# Altium schematic symbol library kmilo17pet-LT_ChargePump.SchLib: 599 symbols (part 20 of 29)
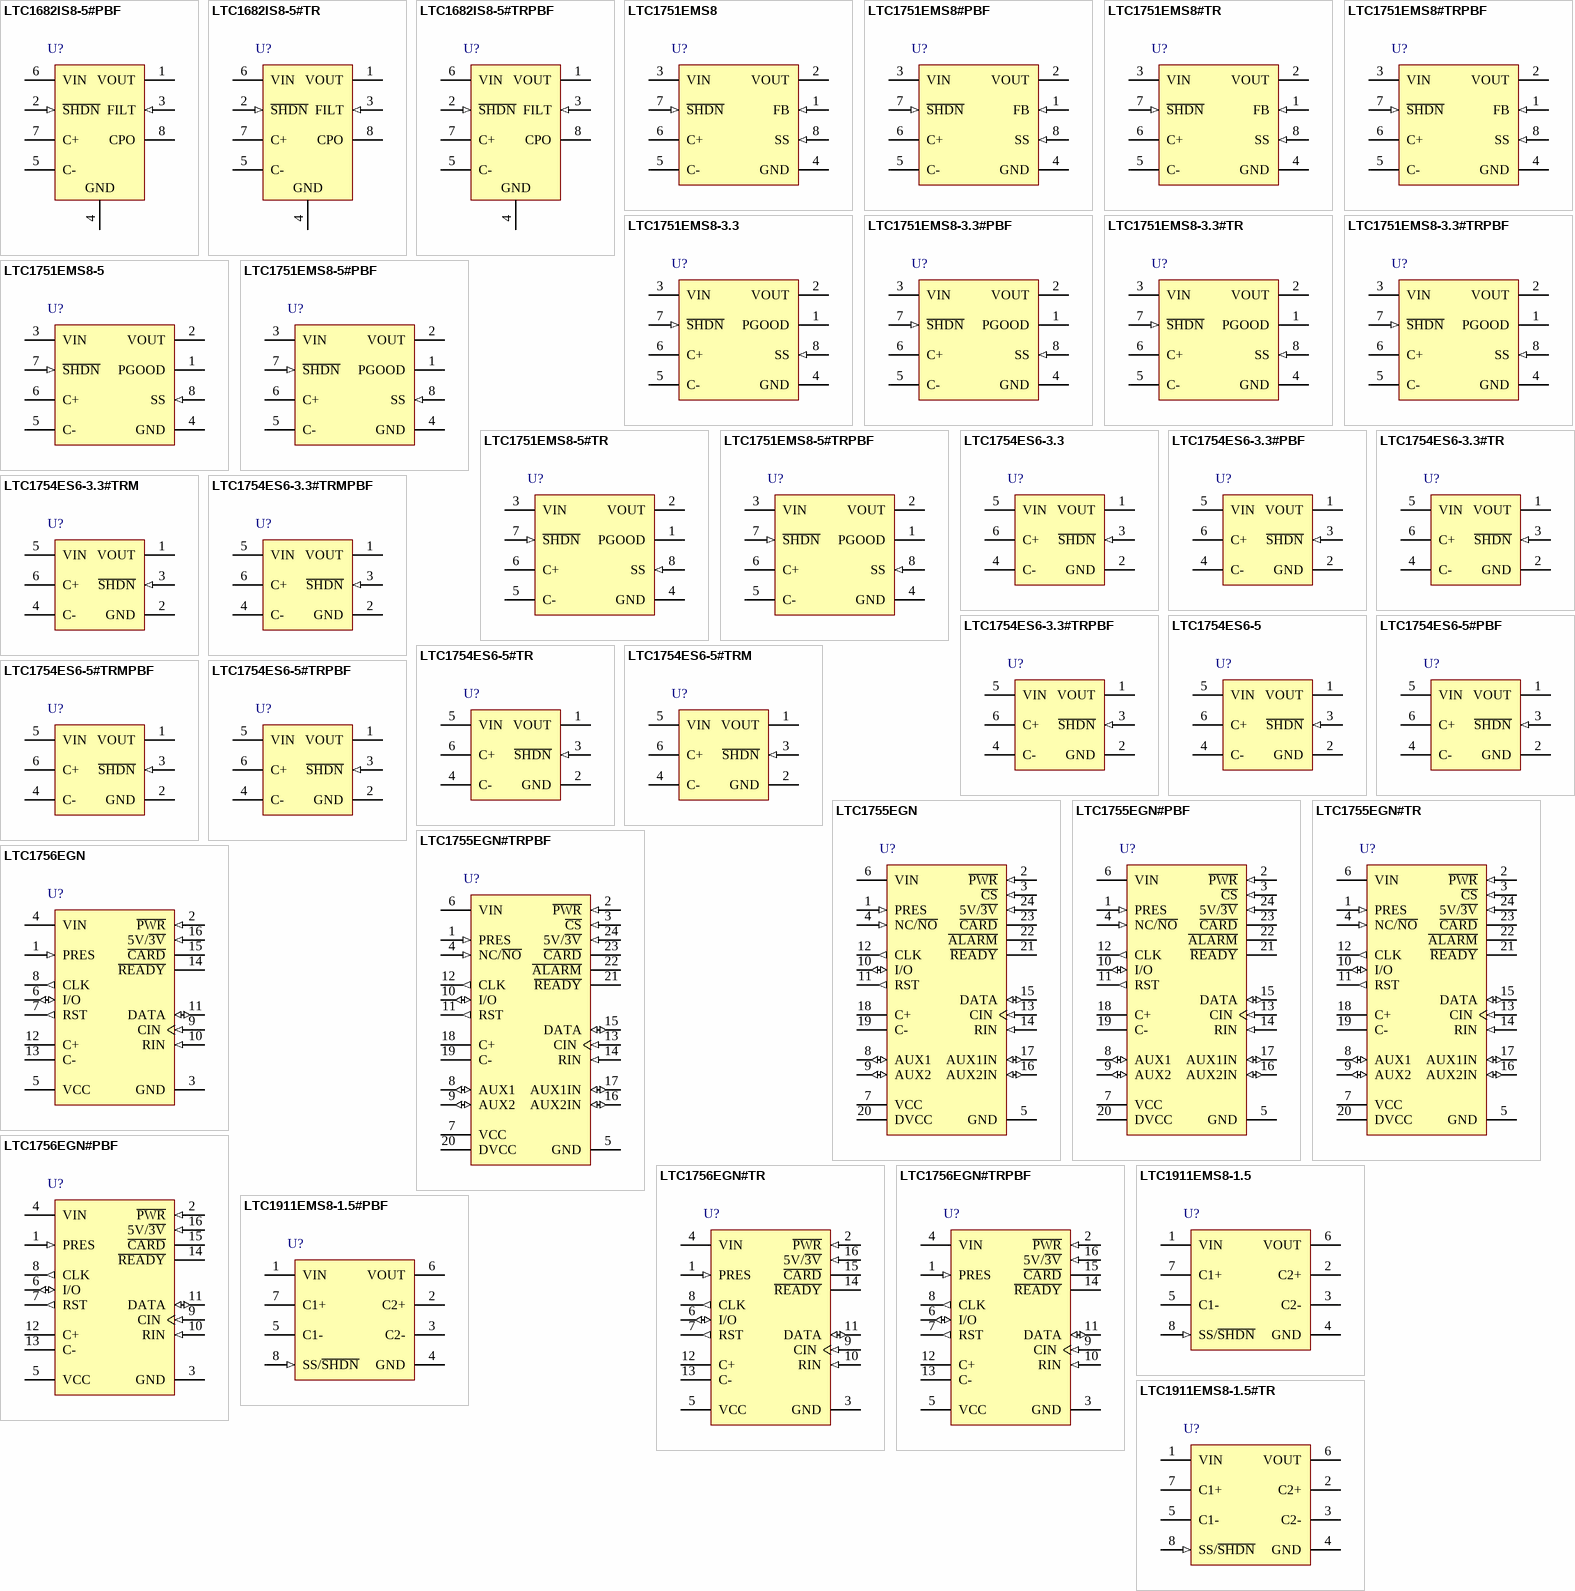
[diagram p35: symbols LTC1682IS8-5#PBF to LTC1911EMS8-1.5#TR]

## LTC1751EMS8-3.3#TRPBF
designator U?
Micropower, Regulated Charge Pump DC/DC Converter, 2 to 4.4 V Vin, 3.3 V Vout, 8-pin SOP (MS8-8), -40 to 85 degC, Pb-Free, Tape and Reel; Manufacturer: Linear Technology; PartNumber: LTC1751EMS8-3.3#TRPBF; Isupply(mA): 0.018; Max Iout(mA): 80; Vin Max(V): 4.4; Vin Min(V): 2; Voutput: 3.3V; PackageVersion: Rev. G, 03/2012; PackageReference: MS8-8; PackageDescription: 8-Pin Plastic MSOP, Body 3 x 3 mm, Pitch 0.65 mm; Supplier 1: Digi-Key; Supplier Part Number 1: LTC1751EMS8-3.3#TRPBF-ND; Packing: Tape and Reel; RoHS: TRUE; Mounting Technology: Surface Mount; ComponentLink1Description: Manufacturer URL; ComponentLink1URL: http://www.linear.com/; ComponentLink2Description: Datasheet; ComponentLink2URL: http://cds.linear.com/docs/en/datasheet/1751f.pdf; ComponentLink3Description: Package Specification; ComponentLink3URL: http://cds.linear.com/docs/en/packaging/05081660_G_MS8.pdf
footprint LT-MS8-8_N (SOP, 8-Leads, Body 3.1x3.1mm, Pitch 0.65mm, IPC Medium Density)
footprint LT-MS8-8_L (SOP, 8-Leads, Body 3.1x3.1mm, Pitch 0.65mm, IPC High Density)
footprint LT-MS8-8_M (SOP, 8-Leads, Body 3.1x3.1mm, Pitch 0.65mm, IPC Low Density)
pins: 1 PGOOD (hiz) "Output Voltage Status Indicator. On start-up, this open-drain pin remains low until the output voltage, VOUT, is within 4.5% (typ) of its final value. Once VOUT is valid, PGOOD becomes high-Z. If, due to a fault condition, (See Datasheet)", 2 VOUT (power) "Regulated Output Voltage. For best performance, VOUT should be bypassed with a 6.8uF (min) low ESR capacitor as close to the pin as possible .", 3 VIN (power) "Input Supply Voltage. VIN should be bypassed with a 6.8uF (min) low ESR capacitor.", 4 GND (power) "Ground. Should be tied to a ground plane for best performance.", 5 C- "Flying Capacitor Negative Terminal.", 6 C+ "Flying Capacitor Positive Terminal.", 7 ~{SHDN} (in) "Active Low Shutdown Input. A low on S\H\D\N\ disables the device. S\H\D\N\ must not be allowed to float.", 8 SS (in) "Soft-Start Programming Pin. A capacitor on SS programs the start-up time of the charge pump so that large start-up input current is eliminated."

## LTC1751EMS8-5
designator U?
Micropower, Regulated Charge Pump DC/DC Converter, 2.7 to 5.5 V Vin, 5 V Vout, 8-pin SOP (MS8-8), -40 to 85 degC; Manufacturer: Linear Technology; PartNumber: LTC1751EMS8-5; Isupply(mA): 0.02; Max Iout(mA): 100; Vin Max(V): 5.5; Vin Min(V): 2.7; Voutput: 5V; PackageVersion: Rev. G, 03/2012; PackageReference: MS8-8; PackageDescription: 8-Pin Plastic MSOP, Body 3 x 3 mm, Pitch 0.65 mm; Supplier 1: Digi-Key; Supplier Part Number 1: LTC1751EMS8-5-ND; RoHS: FALSE; Mounting Technology: Surface Mount; ComponentLink1Description: Manufacturer URL; ComponentLink1URL: http://www.linear.com/; ComponentLink2Description: Datasheet; ComponentLink2URL: http://cds.linear.com/docs/en/datasheet/1751f.pdf; ComponentLink3Description: Package Specification; ComponentLink3URL: http://cds.linear.com/docs/en/packaging/05081660_G_MS8.pdf
footprint LT-MS8-8_N (SOP, 8-Leads, Body 3.1x3.1mm, Pitch 0.65mm, IPC Medium Density)
footprint LT-MS8-8_L (SOP, 8-Leads, Body 3.1x3.1mm, Pitch 0.65mm, IPC High Density)
footprint LT-MS8-8_M (SOP, 8-Leads, Body 3.1x3.1mm, Pitch 0.65mm, IPC Low Density)
pins: 1 PGOOD (hiz) "Output Voltage Status Indicator. On start-up, this open-drain pin remains low until the output voltage, VOUT, is within 4.5% (typ) of its final value. Once VOUT is valid, PGOOD becomes high-Z. If, due to a fault condition, (See Datasheet)", 2 VOUT (power) "Regulated Output Voltage. For best performance, VOUT should be bypassed with a 6.8uF (min) low ESR capacitor as close to the pin as possible .", 3 VIN (power) "Input Supply Voltage. VIN should be bypassed with a 6.8uF (min) low ESR capacitor.", 4 GND (power) "Ground. Should be tied to a ground plane for best performance.", 5 C- "Flying Capacitor Negative Terminal.", 6 C+ "Flying Capacitor Positive Terminal.", 7 ~{SHDN} (in) "Active Low Shutdown Input. A low on S\H\D\N\ disables the device. S\H\D\N\ must not be allowed to float.", 8 SS (in) "Soft-Start Programming Pin. A capacitor on SS programs the start-up time of the charge pump so that large start-up input current is eliminated."

## LTC1751EMS8-5#PBF
designator U?
Micropower, Regulated Charge Pump DC/DC Converter, 2.7 to 5.5 V Vin, 5 V Vout, 8-pin SOP (MS8-8), -40 to 85 degC, Pb-Free; Manufacturer: Linear Technology; PartNumber: LTC1751EMS8-5#PBF; Isupply(mA): 0.02; Max Iout(mA): 100; Vin Max(V): 5.5; Vin Min(V): 2.7; Voutput: 5V; PackageVersion: Rev. G, 03/2012; PackageReference: MS8-8; PackageDescription: 8-Pin Plastic MSOP, Body 3 x 3 mm, Pitch 0.65 mm; Supplier 1: Digi-Key; Supplier Part Number 1: LTC1751EMS8-5#PBF-ND; Supplier 2: Newark; Supplier Part Number 2: 56M3695; RoHS: TRUE; Mounting Technology: Surface Mount; ComponentLink1Description: Manufacturer URL; ComponentLink1URL: http://www.linear.com/; ComponentLink2Description: Datasheet; ComponentLink2URL: http://cds.linear.com/docs/en/datasheet/1751f.pdf; ComponentLink3Description: Package Specification; ComponentLink3URL: http://cds.linear.com/docs/en/packaging/05081660_G_MS8.pdf
footprint LT-MS8-8_N (SOP, 8-Leads, Body 3.1x3.1mm, Pitch 0.65mm, IPC Medium Density)
footprint LT-MS8-8_L (SOP, 8-Leads, Body 3.1x3.1mm, Pitch 0.65mm, IPC High Density)
footprint LT-MS8-8_M (SOP, 8-Leads, Body 3.1x3.1mm, Pitch 0.65mm, IPC Low Density)
pins: 1 PGOOD (hiz) "Output Voltage Status Indicator. On start-up, this open-drain pin remains low until the output voltage, VOUT, is within 4.5% (typ) of its final value. Once VOUT is valid, PGOOD becomes high-Z. If, due to a fault condition, (See Datasheet)", 2 VOUT (power) "Regulated Output Voltage. For best performance, VOUT should be bypassed with a 6.8uF (min) low ESR capacitor as close to the pin as possible .", 3 VIN (power) "Input Supply Voltage. VIN should be bypassed with a 6.8uF (min) low ESR capacitor.", 4 GND (power) "Ground. Should be tied to a ground plane for best performance.", 5 C- "Flying Capacitor Negative Terminal.", 6 C+ "Flying Capacitor Positive Terminal.", 7 ~{SHDN} (in) "Active Low Shutdown Input. A low on S\H\D\N\ disables the device. S\H\D\N\ must not be allowed to float.", 8 SS (in) "Soft-Start Programming Pin. A capacitor on SS programs the start-up time of the charge pump so that large start-up input current is eliminated."

## LTC1751EMS8-5#TR
designator U?
Micropower, Regulated Charge Pump DC/DC Converter, 2.7 to 5.5 V Vin, 5 V Vout, 8-pin SOP (MS8-8), -40 to 85 degC, Tape and Reel; Manufacturer: Linear Technology; PartNumber: LTC1751EMS8-5#TR; Isupply(mA): 0.02; Max Iout(mA): 100; Vin Max(V): 5.5; Vin Min(V): 2.7; Voutput: 5V; PackageVersion: Rev. G, 03/2012; PackageReference: MS8-8; PackageDescription: 8-Pin Plastic MSOP, Body 3 x 3 mm, Pitch 0.65 mm; Supplier 1: Digi-Key; Supplier Part Number 1: LTC1751EMS8-5#TR-ND; Packing: Tape and Reel; RoHS: FALSE; Mounting Technology: Surface Mount; ComponentLink1Description: Manufacturer URL; ComponentLink1URL: http://www.linear.com/; ComponentLink2Description: Datasheet; ComponentLink2URL: http://cds.linear.com/docs/en/datasheet/1751f.pdf; ComponentLink3Description: Package Specification; ComponentLink3URL: http://cds.linear.com/docs/en/packaging/05081660_G_MS8.pdf
footprint LT-MS8-8_N (SOP, 8-Leads, Body 3.1x3.1mm, Pitch 0.65mm, IPC Medium Density)
footprint LT-MS8-8_L (SOP, 8-Leads, Body 3.1x3.1mm, Pitch 0.65mm, IPC High Density)
footprint LT-MS8-8_M (SOP, 8-Leads, Body 3.1x3.1mm, Pitch 0.65mm, IPC Low Density)
pins: 1 PGOOD (hiz) "Output Voltage Status Indicator. On start-up, this open-drain pin remains low until the output voltage, VOUT, is within 4.5% (typ) of its final value. Once VOUT is valid, PGOOD becomes high-Z. If, due to a fault condition, (See Datasheet)", 2 VOUT (power) "Regulated Output Voltage. For best performance, VOUT should be bypassed with a 6.8uF (min) low ESR capacitor as close to the pin as possible .", 3 VIN (power) "Input Supply Voltage. VIN should be bypassed with a 6.8uF (min) low ESR capacitor.", 4 GND (power) "Ground. Should be tied to a ground plane for best performance.", 5 C- "Flying Capacitor Negative Terminal.", 6 C+ "Flying Capacitor Positive Terminal.", 7 ~{SHDN} (in) "Active Low Shutdown Input. A low on S\H\D\N\ disables the device. S\H\D\N\ must not be allowed to float.", 8 SS (in) "Soft-Start Programming Pin. A capacitor on SS programs the start-up time of the charge pump so that large start-up input current is eliminated."

## LTC1751EMS8-5#TRPBF
designator U?
Micropower, Regulated Charge Pump DC/DC Converter, 2.7 to 5.5 V Vin, 5 V Vout, 8-pin SOP (MS8-8), -40 to 85 degC, Pb-Free, Tape and Reel; Manufacturer: Linear Technology; PartNumber: LTC1751EMS8-5#TRPBF; Isupply(mA): 0.02; Max Iout(mA): 100; Vin Max(V): 5.5; Vin Min(V): 2.7; Voutput: 5V; PackageVersion: Rev. G, 03/2012; PackageReference: MS8-8; PackageDescription: 8-Pin Plastic MSOP, Body 3 x 3 mm, Pitch 0.65 mm; Supplier 1: Digi-Key; Supplier Part Number 1: LTC1751EMS8-5#TRPBF-ND; Packing: Tape and Reel; RoHS: TRUE; Mounting Technology: Surface Mount; ComponentLink1Description: Manufacturer URL; ComponentLink1URL: http://www.linear.com/; ComponentLink2Description: Datasheet; ComponentLink2URL: http://cds.linear.com/docs/en/datasheet/1751f.pdf; ComponentLink3Description: Package Specification; ComponentLink3URL: http://cds.linear.com/docs/en/packaging/05081660_G_MS8.pdf
footprint LT-MS8-8_N (SOP, 8-Leads, Body 3.1x3.1mm, Pitch 0.65mm, IPC Medium Density)
footprint LT-MS8-8_L (SOP, 8-Leads, Body 3.1x3.1mm, Pitch 0.65mm, IPC High Density)
footprint LT-MS8-8_M (SOP, 8-Leads, Body 3.1x3.1mm, Pitch 0.65mm, IPC Low Density)
pins: 1 PGOOD (hiz) "Output Voltage Status Indicator. On start-up, this open-drain pin remains low until the output voltage, VOUT, is within 4.5% (typ) of its final value. Once VOUT is valid, PGOOD becomes high-Z. If, due to a fault condition, (See Datasheet)", 2 VOUT (power) "Regulated Output Voltage. For best performance, VOUT should be bypassed with a 6.8uF (min) low ESR capacitor as close to the pin as possible .", 3 VIN (power) "Input Supply Voltage. VIN should be bypassed with a 6.8uF (min) low ESR capacitor.", 4 GND (power) "Ground. Should be tied to a ground plane for best performance.", 5 C- "Flying Capacitor Negative Terminal.", 6 C+ "Flying Capacitor Positive Terminal.", 7 ~{SHDN} (in) "Active Low Shutdown Input. A low on S\H\D\N\ disables the device. S\H\D\N\ must not be allowed to float.", 8 SS (in) "Soft-Start Programming Pin. A capacitor on SS programs the start-up time of the charge pump so that large start-up input current is eliminated."

## LTC1754ES6-3.3
designator U?
Micropower, Regulated Charge Pump with Shutdown, 2 to 4.4 V Vin, 3.3 V Vout, 6-pin SOT23 (S6-6), -40 to 85 degC; Manufacturer: Linear Technology; PartNumber: LTC1754ES6-3.3; Frequency(kHz): 600; Ishutdown(uA): 0.01; Isupply(mA): 0.011; Max Iout(mA): 40; Vin Max(V): 4.4; Vin Min(V): 2; Voutput: 3.3V; PackageVersion: Aug-07; PackageReference: S6-6; PackageDescription: 6-Pin Plastic SOT-23, Body 1.625 x 2.9 mm, Pitch 0.95 mm; RoHS: FALSE; Mounting Technology: Surface Mount; ComponentLink1Description: Manufacturer URL; ComponentLink1URL: http://www.linear.com/; ComponentLink2Description: Datasheet; ComponentLink2URL: http://cds.linear.com/docs/en/datasheet/175435f.pdf; ComponentLink3Description: Package Specification; ComponentLink3URL: http://cds.linear.com/docs/en/datasheet/175435f.pdf
footprint LT-S6-6-SOT-23_N (SOT23, 6-Leads, Body 3x1.75mm, Pitch 0.95mm, IPC Medium Density)
footprint LT-S6-6-SOT-23_L (SOT23, 6-Leads, Body 3x1.75mm, Pitch 0.95mm, IPC High Density)
footprint LT-S6-6-SOT-23_M (SOT23, 6-Leads, Body 3x1.75mm, Pitch 0.95mm, IPC Low Density)
pins: 1 VOUT (power), 2 GND (power) "Ground. Should be tied to a ground plane for best performance.", 3 ~{SHDN} (in), 4 C- "Flying Capacitor Negative Terminal", 5 VIN (power), 6 C+ "Flying Capacitor Positive Terminal."

## LTC1754ES6-3.3#PBF
designator U?
Micropower, Regulated Charge Pump with Shutdown, 2 to 4.4 V Vin, 3.3 V Vout, 6-pin SOT23 (S6-6), -40 to 85 degC, Pb-Free; Manufacturer: Linear Technology; PartNumber: LTC1754ES6-3.3#PBF; Frequency(kHz): 600; Ishutdown(uA): 0.01; Isupply(mA): 0.011; Max Iout(mA): 40; Vin Max(V): 4.4; Vin Min(V): 2; Voutput: 3.3V; PackageVersion: Aug-07; PackageReference: S6-6; PackageDescription: 6-Pin Plastic SOT-23, Body 1.625 x 2.9 mm, Pitch 0.95 mm; Supplier 1: Newark; Supplier Part Number 1: 78T2519; RoHS: TRUE; Mounting Technology: Surface Mount; ComponentLink1Description: Manufacturer URL; ComponentLink1URL: http://www.linear.com/; ComponentLink2Description: Datasheet; ComponentLink2URL: http://cds.linear.com/docs/en/datasheet/175435f.pdf; ComponentLink3Description: Package Specification; ComponentLink3URL: http://cds.linear.com/docs/en/datasheet/175435f.pdf
footprint LT-S6-6-SOT-23_N (SOT23, 6-Leads, Body 3x1.75mm, Pitch 0.95mm, IPC Medium Density)
footprint LT-S6-6-SOT-23_L (SOT23, 6-Leads, Body 3x1.75mm, Pitch 0.95mm, IPC High Density)
footprint LT-S6-6-SOT-23_M (SOT23, 6-Leads, Body 3x1.75mm, Pitch 0.95mm, IPC Low Density)
pins: 1 VOUT (power), 2 GND (power) "Ground. Should be tied to a ground plane for best performance.", 3 ~{SHDN} (in), 4 C- "Flying Capacitor Negative Terminal", 5 VIN (power), 6 C+ "Flying Capacitor Positive Terminal."

## LTC1754ES6-3.3#TR
designator U?
Micropower, Regulated Charge Pump with Shutdown, 2 to 4.4 V Vin, 3.3 V Vout, 6-pin SOT23 (S6-6), -40 to 85 degC, Tape and Reel; Manufacturer: Linear Technology; PartNumber: LTC1754ES6-3.3#TR; Frequency(kHz): 600; Ishutdown(uA): 0.01; Isupply(mA): 0.011; Max Iout(mA): 40; Vin Max(V): 4.4; Vin Min(V): 2; Voutput: 3.3V; PackageVersion: Aug-07; PackageReference: S6-6; PackageDescription: 6-Pin Plastic SOT-23, Body 1.625 x 2.9 mm, Pitch 0.95 mm; Supplier 1: Digi-Key; Supplier Part Number 1: LTC1754ES6-3.3#TR-ND; Packing: Tape and Reel; RoHS: FALSE; Mounting Technology: Surface Mount; ComponentLink1Description: Manufacturer URL; ComponentLink1URL: http://www.linear.com/; ComponentLink2Description: Datasheet; ComponentLink2URL: http://cds.linear.com/docs/en/datasheet/175435f.pdf; ComponentLink3Description: Package Specification; ComponentLink3URL: http://cds.linear.com/docs/en/datasheet/175435f.pdf
footprint LT-S6-6-SOT-23_N (SOT23, 6-Leads, Body 3x1.75mm, Pitch 0.95mm, IPC Medium Density)
footprint LT-S6-6-SOT-23_L (SOT23, 6-Leads, Body 3x1.75mm, Pitch 0.95mm, IPC High Density)
footprint LT-S6-6-SOT-23_M (SOT23, 6-Leads, Body 3x1.75mm, Pitch 0.95mm, IPC Low Density)
pins: 1 VOUT (power), 2 GND (power) "Ground. Should be tied to a ground plane for best performance.", 3 ~{SHDN} (in), 4 C- "Flying Capacitor Negative Terminal", 5 VIN (power), 6 C+ "Flying Capacitor Positive Terminal."

## LTC1754ES6-3.3#TRM
designator U?
Micropower, Regulated Charge Pump with Shutdown, 2 to 4.4 V Vin, 3.3 V Vout, 6-pin SOT23 (S6-6), -40 to 85 degC, Mini Tape and Reel; Manufacturer: Linear Technology; PartNumber: LTC1754ES6-3.3#TRM; Frequency(kHz): 600; Ishutdown(uA): 0.01; Isupply(mA): 0.011; Max Iout(mA): 40; Vin Max(V): 4.4; Vin Min(V): 2; Voutput: 3.3V; PackageVersion: Aug-07; PackageReference: S6-6; PackageDescription: 6-Pin Plastic SOT-23, Body 1.625 x 2.9 mm, Pitch 0.95 mm; Supplier 1: Digi-Key; Supplier Part Number 1: LTC1754ES6-3.3#TRM-ND; Packing: Mini Tape and Reel; RoHS: FALSE; Mounting Technology: Surface Mount; ComponentLink1Description: Manufacturer URL; ComponentLink1URL: http://www.linear.com/; ComponentLink2Description: Datasheet; ComponentLink2URL: http://cds.linear.com/docs/en/datasheet/175435f.pdf; ComponentLink3Description: Package Specification; ComponentLink3URL: http://cds.linear.com/docs/en/datasheet/175435f.pdf
footprint LT-S6-6-SOT-23_N (SOT23, 6-Leads, Body 3x1.75mm, Pitch 0.95mm, IPC Medium Density)
footprint LT-S6-6-SOT-23_L (SOT23, 6-Leads, Body 3x1.75mm, Pitch 0.95mm, IPC High Density)
footprint LT-S6-6-SOT-23_M (SOT23, 6-Leads, Body 3x1.75mm, Pitch 0.95mm, IPC Low Density)
pins: 1 VOUT (power), 2 GND (power) "Ground. Should be tied to a ground plane for best performance.", 3 ~{SHDN} (in), 4 C- "Flying Capacitor Negative Terminal", 5 VIN (power), 6 C+ "Flying Capacitor Positive Terminal."

## LTC1754ES6-3.3#TRMPBF
designator U?
Micropower, Regulated Charge Pump with Shutdown, 2 to 4.4 V Vin, 3.3 V Vout, 6-pin SOT23 (S6-6), -40 to 85 degC, Pb-Free, Mini Tape and Reel; Manufacturer: Linear Technology; PartNumber: LTC1754ES6-3.3#TRMPBF; Frequency(kHz): 600; Ishutdown(uA): 0.01; Isupply(mA): 0.011; Max Iout(mA): 40; Vin Max(V): 4.4; Vin Min(V): 2; Voutput: 3.3V; PackageVersion: Aug-07; PackageReference: S6-6; PackageDescription: 6-Pin Plastic SOT-23, Body 1.625 x 2.9 mm, Pitch 0.95 mm; Supplier 1: Digi-Key; Supplier Part Number 1: LTC1754ES6-3.3#TRMPBF-ND; Packing: Mini Tape and Reel; RoHS: TRUE; Mounting Technology: Surface Mount; ComponentLink1Description: Manufacturer URL; ComponentLink1URL: http://www.linear.com/; ComponentLink2Description: Datasheet; ComponentLink2URL: http://cds.linear.com/docs/en/datasheet/175435f.pdf; ComponentLink3Description: Package Specification; ComponentLink3URL: http://cds.linear.com/docs/en/datasheet/175435f.pdf
footprint LT-S6-6-SOT-23_N (SOT23, 6-Leads, Body 3x1.75mm, Pitch 0.95mm, IPC Medium Density)
footprint LT-S6-6-SOT-23_L (SOT23, 6-Leads, Body 3x1.75mm, Pitch 0.95mm, IPC High Density)
footprint LT-S6-6-SOT-23_M (SOT23, 6-Leads, Body 3x1.75mm, Pitch 0.95mm, IPC Low Density)
pins: 1 VOUT (power), 2 GND (power) "Ground. Should be tied to a ground plane for best performance.", 3 ~{SHDN} (in), 4 C- "Flying Capacitor Negative Terminal", 5 VIN (power), 6 C+ "Flying Capacitor Positive Terminal."

## LTC1754ES6-3.3#TRPBF
designator U?
Micropower, Regulated Charge Pump with Shutdown, 2 to 4.4 V Vin, 3.3 V Vout, 6-pin SOT23 (S6-6), -40 to 85 degC, Pb-Free, Tape and Reel; Manufacturer: Linear Technology; PartNumber: LTC1754ES6-3.3#TRPBF; Frequency(kHz): 600; Ishutdown(uA): 0.01; Isupply(mA): 0.011; Max Iout(mA): 40; Vin Max(V): 4.4; Vin Min(V): 2; Voutput: 3.3V; PackageVersion: Aug-07; PackageReference: S6-6; PackageDescription: 6-Pin Plastic SOT-23, Body 1.625 x 2.9 mm, Pitch 0.95 mm; Supplier 1: Digi-Key; Supplier Part Number 1: LTC1754ES6-3.3#TRPBF-ND; Packing: Tape and Reel; RoHS: TRUE; Mounting Technology: Surface Mount; ComponentLink1Description: Manufacturer URL; ComponentLink1URL: http://www.linear.com/; ComponentLink2Description: Datasheet; ComponentLink2URL: http://cds.linear.com/docs/en/datasheet/175435f.pdf; ComponentLink3Description: Package Specification; ComponentLink3URL: http://cds.linear.com/docs/en/datasheet/175435f.pdf
footprint LT-S6-6-SOT-23_N (SOT23, 6-Leads, Body 3x1.75mm, Pitch 0.95mm, IPC Medium Density)
footprint LT-S6-6-SOT-23_L (SOT23, 6-Leads, Body 3x1.75mm, Pitch 0.95mm, IPC High Density)
footprint LT-S6-6-SOT-23_M (SOT23, 6-Leads, Body 3x1.75mm, Pitch 0.95mm, IPC Low Density)
pins: 1 VOUT (power), 2 GND (power) "Ground. Should be tied to a ground plane for best performance.", 3 ~{SHDN} (in), 4 C- "Flying Capacitor Negative Terminal", 5 VIN (power), 6 C+ "Flying Capacitor Positive Terminal."

## LTC1754ES6-5
designator U?
Micropower, Regulated Charge Pump with Shutdown, 2.7 to 5.5 V Vin, 5 V Vout, 6-pin SOT23 (S6-6), -40 to 85 degC; Manufacturer: Linear Technology; PartNumber: LTC1754ES6-5; Frequency(kHz): 700; Ishutdown(uA): 0.01; Isupply(mA): 0.013; Max Iout(mA): 40; Vin Max(V): 5.5; Vin Min(V): 2.7; Voutput: 5V; PackageVersion: Aug-07; PackageReference: S6-6; PackageDescription: 6-Pin Plastic SOT-23, Body 1.625 x 2.9 mm, Pitch 0.95 mm; RoHS: FALSE; Mounting Technology: Surface Mount; ComponentLink1Description: Manufacturer URL; ComponentLink1URL: http://www.linear.com/; ComponentLink2Description: Datasheet; ComponentLink2URL: http://cds.linear.com/docs/en/datasheet/175435f.pdf; ComponentLink3Description: Package Specification; ComponentLink3URL: http://cds.linear.com/docs/en/datasheet/175435f.pdf
footprint LT-S6-6-SOT-23_N (SOT23, 6-Leads, Body 3x1.75mm, Pitch 0.95mm, IPC Medium Density)
footprint LT-S6-6-SOT-23_L (SOT23, 6-Leads, Body 3x1.75mm, Pitch 0.95mm, IPC High Density)
footprint LT-S6-6-SOT-23_M (SOT23, 6-Leads, Body 3x1.75mm, Pitch 0.95mm, IPC Low Density)
pins: 1 VOUT (power), 2 GND (power) "Ground. Should be tied to a ground plane for best performance.", 3 ~{SHDN} (in), 4 C- "Flying Capacitor Negative Terminal", 5 VIN (power), 6 C+ "Flying Capacitor Positive Terminal."

## LTC1754ES6-5#PBF
designator U?
Micropower, Regulated Charge Pump with Shutdown, 2.7 to 5.5 V Vin, 5 V Vout, 6-pin SOT23 (S6-6), -40 to 85 degC, Pb-Free; Manufacturer: Linear Technology; PartNumber: LTC1754ES6-5#PBF; Frequency(kHz): 700; Ishutdown(uA): 0.01; Isupply(mA): 0.013; Max Iout(mA): 40; Vin Max(V): 5.5; Vin Min(V): 2.7; Voutput: 5V; PackageVersion: Aug-07; PackageReference: S6-6; PackageDescription: 6-Pin Plastic SOT-23, Body 1.625 x 2.9 mm, Pitch 0.95 mm; Supplier 1: Farnell; Supplier Part Number 1: 2308096; Supplier 2: Newark; Supplier Part Number 2: 78T2520; RoHS: TRUE; Mounting Technology: Surface Mount; ComponentLink1Description: Manufacturer URL; ComponentLink1URL: http://www.linear.com/; ComponentLink2Description: Datasheet; ComponentLink2URL: http://cds.linear.com/docs/en/datasheet/175435f.pdf; ComponentLink3Description: Package Specification; ComponentLink3URL: http://cds.linear.com/docs/en/datasheet/175435f.pdf
footprint LT-S6-6-SOT-23_N (SOT23, 6-Leads, Body 3x1.75mm, Pitch 0.95mm, IPC Medium Density)
footprint LT-S6-6-SOT-23_L (SOT23, 6-Leads, Body 3x1.75mm, Pitch 0.95mm, IPC High Density)
footprint LT-S6-6-SOT-23_M (SOT23, 6-Leads, Body 3x1.75mm, Pitch 0.95mm, IPC Low Density)
pins: 1 VOUT (power), 2 GND (power) "Ground. Should be tied to a ground plane for best performance.", 3 ~{SHDN} (in), 4 C- "Flying Capacitor Negative Terminal", 5 VIN (power), 6 C+ "Flying Capacitor Positive Terminal."

## LTC1754ES6-5#TR
designator U?
Micropower, Regulated Charge Pump with Shutdown, 2.7 to 5.5 V Vin, 5 V Vout, 6-pin SOT23 (S6-6), -40 to 85 degC, Tape and Reel; Manufacturer: Linear Technology; PartNumber: LTC1754ES6-5#TR; Frequency(kHz): 700; Ishutdown(uA): 0.01; Isupply(mA): 0.013; Max Iout(mA): 40; Vin Max(V): 5.5; Vin Min(V): 2.7; Voutput: 5V; PackageVersion: Aug-07; PackageReference: S6-6; PackageDescription: 6-Pin Plastic SOT-23, Body 1.625 x 2.9 mm, Pitch 0.95 mm; Supplier 1: Digi-Key; Supplier Part Number 1: LTC1754ES6-5#TR-ND; Supplier 2: Newark; Supplier Part Number 2: 56M3713; Packing: Tape and Reel; RoHS: FALSE; Mounting Technology: Surface Mount; ComponentLink1Description: Manufacturer URL; ComponentLink1URL: http://www.linear.com/; ComponentLink2Description: Datasheet; ComponentLink2URL: http://cds.linear.com/docs/en/datasheet/175435f.pdf; ComponentLink3Description: Package Specification; ComponentLink3URL: http://cds.linear.com/docs/en/datasheet/175435f.pdf
footprint LT-S6-6-SOT-23_N (SOT23, 6-Leads, Body 3x1.75mm, Pitch 0.95mm, IPC Medium Density)
footprint LT-S6-6-SOT-23_L (SOT23, 6-Leads, Body 3x1.75mm, Pitch 0.95mm, IPC High Density)
footprint LT-S6-6-SOT-23_M (SOT23, 6-Leads, Body 3x1.75mm, Pitch 0.95mm, IPC Low Density)
pins: 1 VOUT (power), 2 GND (power) "Ground. Should be tied to a ground plane for best performance.", 3 ~{SHDN} (in), 4 C- "Flying Capacitor Negative Terminal", 5 VIN (power), 6 C+ "Flying Capacitor Positive Terminal."

## LTC1754ES6-5#TRM
designator U?
Micropower, Regulated Charge Pump with Shutdown, 2.7 to 5.5 V Vin, 5 V Vout, 6-pin SOT23 (S6-6), -40 to 85 degC, Mini Tape and Reel; Manufacturer: Linear Technology; PartNumber: LTC1754ES6-5#TRM; Frequency(kHz): 700; Ishutdown(uA): 0.01; Isupply(mA): 0.013; Max Iout(mA): 40; Vin Max(V): 5.5; Vin Min(V): 2.7; Voutput: 5V; PackageVersion: Aug-07; PackageReference: S6-6; PackageDescription: 6-Pin Plastic SOT-23, Body 1.625 x 2.9 mm, Pitch 0.95 mm; Supplier 1: Digi-Key; Supplier Part Number 1: LTC1754ES6-5#TRM-ND; Supplier 2: Newark; Supplier Part Number 2: 56M3714; Packing: Mini Tape and Reel; RoHS: FALSE; Mounting Technology: Surface Mount; ComponentLink1Description: Manufacturer URL; ComponentLink1URL: http://www.linear.com/; ComponentLink2Description: Datasheet; ComponentLink2URL: http://cds.linear.com/docs/en/datasheet/175435f.pdf; ComponentLink3Description: Package Specification; ComponentLink3URL: http://cds.linear.com/docs/en/datasheet/175435f.pdf
footprint LT-S6-6-SOT-23_N (SOT23, 6-Leads, Body 3x1.75mm, Pitch 0.95mm, IPC Medium Density)
footprint LT-S6-6-SOT-23_L (SOT23, 6-Leads, Body 3x1.75mm, Pitch 0.95mm, IPC High Density)
footprint LT-S6-6-SOT-23_M (SOT23, 6-Leads, Body 3x1.75mm, Pitch 0.95mm, IPC Low Density)
pins: 1 VOUT (power), 2 GND (power) "Ground. Should be tied to a ground plane for best performance.", 3 ~{SHDN} (in), 4 C- "Flying Capacitor Negative Terminal", 5 VIN (power), 6 C+ "Flying Capacitor Positive Terminal."

## LTC1754ES6-5#TRMPBF
designator U?
Micropower, Regulated Charge Pump with Shutdown, 2.7 to 5.5 V Vin, 5 V Vout, 6-pin SOT23 (S6-6), -40 to 85 degC, Pb-Free, Mini Tape and Reel; Manufacturer: Linear Technology; PartNumber: LTC1754ES6-5#TRMPBF; Frequency(kHz): 700; Ishutdown(uA): 0.01; Isupply(mA): 0.013; Max Iout(mA): 40; Vin Max(V): 5.5; Vin Min(V): 2.7; Voutput: 5V; PackageVersion: Aug-07; PackageReference: S6-6; PackageDescription: 6-Pin Plastic SOT-23, Body 1.625 x 2.9 mm, Pitch 0.95 mm; Supplier 1: Digi-Key; Supplier Part Number 1: LTC1754ES6-5#TRMPBFTR-ND; Supplier 2: Digi-Key; Supplier Part Number 2: LTC1754ES6-5#TRMPBFCT-ND; Supplier 3: Digi-Key; Supplier Part Number 3: LTC1754ES6-5#TRMPBFDKR-ND; Supplier 4: Farnell; Supplier Part Number 4: 1663858; Supplier 5: Farnell; Supplier Part Number 5: 1663858RL; Supplier 6: Newark; Supplier Part Number 6: 56M3715; Packing: Mini Tape and Reel; RoHS: TRUE; Mounting Technology: Surface Mount; ComponentLink1Description: Manufacturer URL; ComponentLink1URL: http://www.linear.com/; ComponentLink2Description: Datasheet; ComponentLink2URL: http://cds.linear.com/docs/en/datasheet/175435f.pdf; ComponentLink3Description: Package Specification; ComponentLink3URL: http://cds.linear.com/docs/en/datasheet/175435f.pdf
footprint LT-S6-6-SOT-23_N (SOT23, 6-Leads, Body 3x1.75mm, Pitch 0.95mm, IPC Medium Density)
footprint LT-S6-6-SOT-23_L (SOT23, 6-Leads, Body 3x1.75mm, Pitch 0.95mm, IPC High Density)
footprint LT-S6-6-SOT-23_M (SOT23, 6-Leads, Body 3x1.75mm, Pitch 0.95mm, IPC Low Density)
pins: 1 VOUT (power), 2 GND (power) "Ground. Should be tied to a ground plane for best performance.", 3 ~{SHDN} (in), 4 C- "Flying Capacitor Negative Terminal", 5 VIN (power), 6 C+ "Flying Capacitor Positive Terminal."

## LTC1754ES6-5#TRPBF
designator U?
Micropower, Regulated Charge Pump with Shutdown, 2.7 to 5.5 V Vin, 5 V Vout, 6-pin SOT23 (S6-6), -40 to 85 degC, Pb-Free, Tape and Reel; Manufacturer: Linear Technology; PartNumber: LTC1754ES6-5#TRPBF; Frequency(kHz): 700; Ishutdown(uA): 0.01; Isupply(mA): 0.013; Max Iout(mA): 40; Vin Max(V): 5.5; Vin Min(V): 2.7; Voutput: 5V; PackageVersion: Aug-07; PackageReference: S6-6; PackageDescription: 6-Pin Plastic SOT-23, Body 1.625 x 2.9 mm, Pitch 0.95 mm; Supplier 1: Digi-Key; Supplier Part Number 1: LTC1754ES6-5#TRPBF-ND; Supplier 2: Newark; Supplier Part Number 2: 56M3716; Packing: Tape and Reel; RoHS: TRUE; Mounting Technology: Surface Mount; ComponentLink1Description: Manufacturer URL; ComponentLink1URL: http://www.linear.com/; ComponentLink2Description: Datasheet; ComponentLink2URL: http://cds.linear.com/docs/en/datasheet/175435f.pdf; ComponentLink3Description: Package Specification; ComponentLink3URL: http://cds.linear.com/docs/en/datasheet/175435f.pdf
footprint LT-S6-6-SOT-23_N (SOT23, 6-Leads, Body 3x1.75mm, Pitch 0.95mm, IPC Medium Density)
footprint LT-S6-6-SOT-23_L (SOT23, 6-Leads, Body 3x1.75mm, Pitch 0.95mm, IPC High Density)
footprint LT-S6-6-SOT-23_M (SOT23, 6-Leads, Body 3x1.75mm, Pitch 0.95mm, IPC Low Density)
pins: 1 VOUT (power), 2 GND (power) "Ground. Should be tied to a ground plane for best performance.", 3 ~{SHDN} (in), 4 C- "Flying Capacitor Negative Terminal", 5 VIN (power), 6 C+ "Flying Capacitor Positive Terminal."

## LTC1755EGN
designator U?
Smart Card Interface, 2.7 to 6 V Vin, 3 / 5 V Vout, 24-pin SOP (GN-24), -40 to 85 degC; Manufacturer: Linear Technology; PartNumber: LTC1755EGN; Ishutdown(uA): 1; Isupply(mA): 0.06; Max Iout(mA): 60; Vin Max(V): 6; Vin Min(V): 2.7; Voutput: 3V, 5V; PackageVersion: Rev. B, 03/2012; PackageReference: GN24; PackageDescription: 24-Pin Plastic SSOP , Body 8.5 x 3.9 mm, Pitch 0.635 mm; Supplier 1: Digi-Key; Supplier Part Number 1: LTC1755EGN-ND; RoHS: FALSE; Mounting Technology: Surface Mount; ComponentLink1Description: Manufacturer URL; ComponentLink1URL: http://www.linear.com/; ComponentLink2Description: Datasheet; ComponentLink2URL: http://cds.linear.com/docs/en/datasheet/17556s.pdf; ComponentLink3Description: Package Specification; ComponentLink3URL: http://cds.linear.com/docs/en/packaging/05081641_B_GN24.pdf
footprint LT-GN-24_N (SOP, 24-Leads, Body 8.7x4mm, Pitch 0.635mm, IPC Medium Density)
footprint LT-GN-24_L (SOP, 24-Leads, Body 8.7x4mm, Pitch 0.635mm, IPC High Density)
footprint LT-GN-24_M (SOP, 24-Leads, Body 8.7x4mm, Pitch 0.635mm, IPC Low Density)
pins: 1 PRES (in) "(Input) Connects to the Smart Card acceptor¡¯s PRESENT indicator switch to detect if a card is inserted. This pin has a pull-up current source so that a grounded switch can be detected with no external components. Th(See Datasheet)", 2 ~{PWR} (in) "(Input) A low on the P\W\R\ pin places the LTC1755 in the ACTIVE state enabling the charge pump. The R\E\A\D\Y\ pin indicates when the card supply voltage (VCC) has reached its final value and communication with the Smart (See Datasheet)", 3 ~{CS} (in) "(Input) The C\S\ pin enables the three bidirectional I/O channels of the LTC1755. When the I/O channels are disabled the Smart Card pins (I/O, AUX1, AUX2) are forced to logic one and the controller pins (DATA, AUX2IN, (See Datasheet)", 4 NC/~{NO} (in) "(Input) This pin controls the activation level of the PRES pin. When it is high (DVCC) the PRES pin is active high. When it is low (GND) the PRES pin is active low. In either case the presence of a Smart Card is indicated by (See Datasheet)", 5 GND (power) "Ground Reference for the IC. This pin should be connected to a low impedance ground plane. Bypass capacitors for VIN and VCC should be in close proximity to the GND pin.", 6 VIN (power) "Supply Voltage for the Charge Pump. May be between 2.7V and 6V. A 10uF low ESR ceramic bypass capacitor is required on this pin for optimum performance.", 7 VCC (power) "Regulated Smart Card Supply Voltage. This pin should be connected to the Smart Card VCC contact. The 5V/3\V\ pin determines the VCC output voltage. The VCC pin is protected against short circuits by comparing the actual (See Datasheet)", 8 AUX1 (io) "(Input/Output) Smart Card Side Auxiliary I/O Pin. This pin is used for auxiliary bidirectional data transfer between the microcontroller and the Smart Card. It has the same characteristics as the I/O pin.", 9 AUX2 (io) "(Input/Output) Smart Card Side Auxiliary I/O Pin. This pin is used for auxiliary bidirectional data transfer between the microcontroller and the Smart Card. It has the same characteristics as the I/O pin.", 10 I/O (io) "(Input/Output) Smart Card Side Data I/O Pin. This pin is used for bidirectional data transfer between the microcontroller and the Smart Card. It should be connected to the Smart Card I/O contact. The Smart Card I/O pin must (See Datasheet)", 11 RST (out) "(Output) Level-Shifted Reset Output Pin. This pin should be connected to the Smart Card RST contact. The RST pin becomes a low impedance to ground during the Idle state (see the State Diagram). The reset channel does not (See Datasheet)", 12 CLK (out) "(Output) Level-Shifted Clock Output Pin. This pin should be connected to the Smart Card CLK contact. The CLK pin becomes a low impedance to ground during the Idle state (see the State Diagram). The clock channel does not (See Datasheet)", 13 CIN (in) "(Input) Clock Input Pin from the Microcontroller. During the Active state this signal appears on the CLK pin after being level-shifted and buffered. DVCC sets the logic reference level for the CIN pin.", 14 RIN (in) "(Input) Reset Input Pin from the Microcontroller. During the Active state this signal appears on the RST pin after being level-shifted and buffered. DVCC sets the logic reference level for the RIN pin.", 15 DATA (io) "(Input/Output) Microcontroller Side Data I/O Pin. This pin is used for bidirectional data transfer between the microcontroller and the Smart Card. The microcontroller data pin must be open drain and must be able to sink up (See Datasheet)", 16 AUX2IN (io) "(Input/Output) Microcontroller Side Auxiliary I/O pin. This pin is used for bidirectional auxiliary data transfer between the microcontroller and the Smart Card. It has the same characteristics as the DATA pin.", 17 AUX1IN (io) "(Input/Output) Microcontroller Side Auxiliary I/O Pin. This pin is used for bidirectional auxiliary data transfer between the microcontroller and the Smart Card. It has the same characteristics as the DATA pin.", 18 C+ "Charge Pump Flying Capacitor Terminals. Optimum values for the flying capacitor range from 0.68uF to 1uF. Best performance is achieved with a low ESR X7R ceramic capacitor.", 19 C- "Charge Pump Flying Capacitor Terminals. Optimum values for the flying capacitor range from 0.68uF to 1uF. Best performance is achieved with a low ESR X7R ceramic capacitor.", 20 DVCC (power) "Supply Voltage for the Microcontroller Side Digital Input and Input/Output Pins (Typically 3V). If the charge pump input pin (VIN) is powered from the same source as the microcontroller, then DVCC should be connected (See Datasheet)", 21 ~{READY} (oc) "(Output) Readiness Indicator of the Smart Card Supply Voltage (VCC). When the LTC1755/ LTC1756 are placed in the Active state the soft-start feature slowly ramps the VCC voltage. A low on the R\E\A\D\Y\ pin indicates that (See Datasheet)", 22 ~{ALARM} (oc) "(Output) A low on this pin indicates that a fault has occurred and that the LTC1755 is in the Alarm state (see the State Diagram). Possible faults include VCC underrange for at least 5ms, overtemperature shutdown, CLK or RST (See Datasheet)", 23 ~{CARD} (oc) "(Output) Level-Shifted and Debounced PRES Signal from the Smart Card Acceptor Switch. When a valid card indication appears, this pin communicates the presence of the Smart Card to the microcontroller. The C\A\R\D\ pin has an (See Datasheet)", 24 5V/~{3V} (in) "(Input) Controls the output voltage (VCC) of the DC/DC converter during the Active state. A valid high sets VCC to 5V. A valid low sets VCC to 3V. The 5V/3\V\ pin is latched on the falling edge of the P\W\R\ pin. When P\W\R\ (See Datasheet)"

## LTC1755EGN#PBF
designator U?
Smart Card Interface, 2.7 to 6 V Vin, 3 / 5 V Vout, 24-pin SOP (GN-24), -40 to 85 degC, Pb-Free; Manufacturer: Linear Technology; PartNumber: LTC1755EGN#PBF; Ishutdown(uA): 1; Isupply(mA): 0.06; Max Iout(mA): 60; Vin Max(V): 6; Vin Min(V): 2.7; Voutput: 3V, 5V; PackageVersion: Rev. B, 03/2012; PackageReference: GN24; PackageDescription: 24-Pin Plastic SSOP , Body 8.5 x 3.9 mm, Pitch 0.635 mm; Supplier 1: Digi-Key; Supplier Part Number 1: LTC1755EGN#PBF-ND; RoHS: TRUE; Mounting Technology: Surface Mount; ComponentLink1Description: Manufacturer URL; ComponentLink1URL: http://www.linear.com/; ComponentLink2Description: Datasheet; ComponentLink2URL: http://cds.linear.com/docs/en/datasheet/17556s.pdf; ComponentLink3Description: Package Specification; ComponentLink3URL: http://cds.linear.com/docs/en/packaging/05081641_B_GN24.pdf
footprint LT-GN-24_N (SOP, 24-Leads, Body 8.7x4mm, Pitch 0.635mm, IPC Medium Density)
footprint LT-GN-24_L (SOP, 24-Leads, Body 8.7x4mm, Pitch 0.635mm, IPC High Density)
footprint LT-GN-24_M (SOP, 24-Leads, Body 8.7x4mm, Pitch 0.635mm, IPC Low Density)
pins: 1 PRES (in) "(Input) Connects to the Smart Card acceptor¡¯s PRESENT indicator switch to detect if a card is inserted. This pin has a pull-up current source so that a grounded switch can be detected with no external components. Th(See Datasheet)", 2 ~{PWR} (in) "(Input) A low on the P\W\R\ pin places the LTC1755 in the ACTIVE state enabling the charge pump. The R\E\A\D\Y\ pin indicates when the card supply voltage (VCC) has reached its final value and communication with the Smart (See Datasheet)", 3 ~{CS} (in) "(Input) The C\S\ pin enables the three bidirectional I/O channels of the LTC1755. When the I/O channels are disabled the Smart Card pins (I/O, AUX1, AUX2) are forced to logic one and the controller pins (DATA, AUX2IN, (See Datasheet)", 4 NC/~{NO} (in) "(Input) This pin controls the activation level of the PRES pin. When it is high (DVCC) the PRES pin is active high. When it is low (GND) the PRES pin is active low. In either case the presence of a Smart Card is indicated by (See Datasheet)", 5 GND (power) "Ground Reference for the IC. This pin should be connected to a low impedance ground plane. Bypass capacitors for VIN and VCC should be in close proximity to the GND pin.", 6 VIN (power) "Supply Voltage for the Charge Pump. May be between 2.7V and 6V. A 10uF low ESR ceramic bypass capacitor is required on this pin for optimum performance.", 7 VCC (power) "Regulated Smart Card Supply Voltage. This pin should be connected to the Smart Card VCC contact. The 5V/3\V\ pin determines the VCC output voltage. The VCC pin is protected against short circuits by comparing the actual (See Datasheet)", 8 AUX1 (io) "(Input/Output) Smart Card Side Auxiliary I/O Pin. This pin is used for auxiliary bidirectional data transfer between the microcontroller and the Smart Card. It has the same characteristics as the I/O pin.", 9 AUX2 (io) "(Input/Output) Smart Card Side Auxiliary I/O Pin. This pin is used for auxiliary bidirectional data transfer between the microcontroller and the Smart Card. It has the same characteristics as the I/O pin.", 10 I/O (io) "(Input/Output) Smart Card Side Data I/O Pin. This pin is used for bidirectional data transfer between the microcontroller and the Smart Card. It should be connected to the Smart Card I/O contact. The Smart Card I/O pin must (See Datasheet)", 11 RST (out) "(Output) Level-Shifted Reset Output Pin. This pin should be connected to the Smart Card RST contact. The RST pin becomes a low impedance to ground during the Idle state (see the State Diagram). The reset channel does not (See Datasheet)", 12 CLK (out) "(Output) Level-Shifted Clock Output Pin. This pin should be connected to the Smart Card CLK contact. The CLK pin becomes a low impedance to ground during the Idle state (see the State Diagram). The clock channel does not (See Datasheet)", 13 CIN (in) "(Input) Clock Input Pin from the Microcontroller. During the Active state this signal appears on the CLK pin after being level-shifted and buffered. DVCC sets the logic reference level for the CIN pin.", 14 RIN (in) "(Input) Reset Input Pin from the Microcontroller. During the Active state this signal appears on the RST pin after being level-shifted and buffered. DVCC sets the logic reference level for the RIN pin.", 15 DATA (io) "(Input/Output) Microcontroller Side Data I/O Pin. This pin is used for bidirectional data transfer between the microcontroller and the Smart Card. The microcontroller data pin must be open drain and must be able to sink up (See Datasheet)", 16 AUX2IN (io) "(Input/Output) Microcontroller Side Auxiliary I/O pin. This pin is used for bidirectional auxiliary data transfer between the microcontroller and the Smart Card. It has the same characteristics as the DATA pin.", 17 AUX1IN (io) "(Input/Output) Microcontroller Side Auxiliary I/O Pin. This pin is used for bidirectional auxiliary data transfer between the microcontroller and the Smart Card. It has the same characteristics as the DATA pin.", 18 C+ "Charge Pump Flying Capacitor Terminals. Optimum values for the flying capacitor range from 0.68uF to 1uF. Best performance is achieved with a low ESR X7R ceramic capacitor.", 19 C- "Charge Pump Flying Capacitor Terminals. Optimum values for the flying capacitor range from 0.68uF to 1uF. Best performance is achieved with a low ESR X7R ceramic capacitor.", 20 DVCC (power) "Supply Voltage for the Microcontroller Side Digital Input and Input/Output Pins (Typically 3V). If the charge pump input pin (VIN) is powered from the same source as the microcontroller, then DVCC should be connected (See Datasheet)", 21 ~{READY} (oc) "(Output) Readiness Indicator of the Smart Card Supply Voltage (VCC). When the LTC1755/ LTC1756 are placed in the Active state the soft-start feature slowly ramps the VCC voltage. A low on the R\E\A\D\Y\ pin indicates that (See Datasheet)", 22 ~{ALARM} (oc) "(Output) A low on this pin indicates that a fault has occurred and that the LTC1755 is in the Alarm state (see the State Diagram). Possible faults include VCC underrange for at least 5ms, overtemperature shutdown, CLK or RST (See Datasheet)", 23 ~{CARD} (oc) "(Output) Level-Shifted and Debounced PRES Signal from the Smart Card Acceptor Switch. When a valid card indication appears, this pin communicates the presence of the Smart Card to the microcontroller. The C\A\R\D\ pin has an (See Datasheet)", 24 5V/~{3V} (in) "(Input) Controls the output voltage (VCC) of the DC/DC converter during the Active state. A valid high sets VCC to 5V. A valid low sets VCC to 3V. The 5V/3\V\ pin is latched on the falling edge of the P\W\R\ pin. When P\W\R\ (See Datasheet)"

## LTC1755EGN#TR
designator U?
Smart Card Interface, 2.7 to 6 V Vin, 3 / 5 V Vout, 24-pin SOP (GN-24), -40 to 85 degC, Tape and Reel; Manufacturer: Linear Technology; PartNumber: LTC1755EGN#TR; Ishutdown(uA): 1; Isupply(mA): 0.06; Max Iout(mA): 60; Vin Max(V): 6; Vin Min(V): 2.7; Voutput: 3V, 5V; PackageVersion: Rev. B, 03/2012; PackageReference: GN24; PackageDescription: 24-Pin Plastic SSOP , Body 8.5 x 3.9 mm, Pitch 0.635 mm; Supplier 1: Digi-Key; Supplier Part Number 1: LTC1755EGN#TR-ND; Packing: Tape and Reel; RoHS: FALSE; Mounting Technology: Surface Mount; ComponentLink1Description: Manufacturer URL; ComponentLink1URL: http://www.linear.com/; ComponentLink2Description: Datasheet; ComponentLink2URL: http://cds.linear.com/docs/en/datasheet/17556s.pdf; ComponentLink3Description: Package Specification; ComponentLink3URL: http://cds.linear.com/docs/en/packaging/05081641_B_GN24.pdf
footprint LT-GN-24_N (SOP, 24-Leads, Body 8.7x4mm, Pitch 0.635mm, IPC Medium Density)
footprint LT-GN-24_L (SOP, 24-Leads, Body 8.7x4mm, Pitch 0.635mm, IPC High Density)
footprint LT-GN-24_M (SOP, 24-Leads, Body 8.7x4mm, Pitch 0.635mm, IPC Low Density)
pins: 1 PRES (in) "(Input) Connects to the Smart Card acceptor¡¯s PRESENT indicator switch to detect if a card is inserted. This pin has a pull-up current source so that a grounded switch can be detected with no external components. Th(See Datasheet)", 2 ~{PWR} (in) "(Input) A low on the P\W\R\ pin places the LTC1755 in the ACTIVE state enabling the charge pump. The R\E\A\D\Y\ pin indicates when the card supply voltage (VCC) has reached its final value and communication with the Smart (See Datasheet)", 3 ~{CS} (in) "(Input) The C\S\ pin enables the three bidirectional I/O channels of the LTC1755. When the I/O channels are disabled the Smart Card pins (I/O, AUX1, AUX2) are forced to logic one and the controller pins (DATA, AUX2IN, (See Datasheet)", 4 NC/~{NO} (in) "(Input) This pin controls the activation level of the PRES pin. When it is high (DVCC) the PRES pin is active high. When it is low (GND) the PRES pin is active low. In either case the presence of a Smart Card is indicated by (See Datasheet)", 5 GND (power) "Ground Reference for the IC. This pin should be connected to a low impedance ground plane. Bypass capacitors for VIN and VCC should be in close proximity to the GND pin.", 6 VIN (power) "Supply Voltage for the Charge Pump. May be between 2.7V and 6V. A 10uF low ESR ceramic bypass capacitor is required on this pin for optimum performance.", 7 VCC (power) "Regulated Smart Card Supply Voltage. This pin should be connected to the Smart Card VCC contact. The 5V/3\V\ pin determines the VCC output voltage. The VCC pin is protected against short circuits by comparing the actual (See Datasheet)", 8 AUX1 (io) "(Input/Output) Smart Card Side Auxiliary I/O Pin. This pin is used for auxiliary bidirectional data transfer between the microcontroller and the Smart Card. It has the same characteristics as the I/O pin.", 9 AUX2 (io) "(Input/Output) Smart Card Side Auxiliary I/O Pin. This pin is used for auxiliary bidirectional data transfer between the microcontroller and the Smart Card. It has the same characteristics as the I/O pin.", 10 I/O (io) "(Input/Output) Smart Card Side Data I/O Pin. This pin is used for bidirectional data transfer between the microcontroller and the Smart Card. It should be connected to the Smart Card I/O contact. The Smart Card I/O pin must (See Datasheet)", 11 RST (out) "(Output) Level-Shifted Reset Output Pin. This pin should be connected to the Smart Card RST contact. The RST pin becomes a low impedance to ground during the Idle state (see the State Diagram). The reset channel does not (See Datasheet)", 12 CLK (out) "(Output) Level-Shifted Clock Output Pin. This pin should be connected to the Smart Card CLK contact. The CLK pin becomes a low impedance to ground during the Idle state (see the State Diagram). The clock channel does not (See Datasheet)", 13 CIN (in) "(Input) Clock Input Pin from the Microcontroller. During the Active state this signal appears on the CLK pin after being level-shifted and buffered. DVCC sets the logic reference level for the CIN pin.", 14 RIN (in) "(Input) Reset Input Pin from the Microcontroller. During the Active state this signal appears on the RST pin after being level-shifted and buffered. DVCC sets the logic reference level for the RIN pin.", 15 DATA (io) "(Input/Output) Microcontroller Side Data I/O Pin. This pin is used for bidirectional data transfer between the microcontroller and the Smart Card. The microcontroller data pin must be open drain and must be able to sink up (See Datasheet)", 16 AUX2IN (io) "(Input/Output) Microcontroller Side Auxiliary I/O pin. This pin is used for bidirectional auxiliary data transfer between the microcontroller and the Smart Card. It has the same characteristics as the DATA pin.", 17 AUX1IN (io) "(Input/Output) Microcontroller Side Auxiliary I/O Pin. This pin is used for bidirectional auxiliary data transfer between the microcontroller and the Smart Card. It has the same characteristics as the DATA pin.", 18 C+ "Charge Pump Flying Capacitor Terminals. Optimum values for the flying capacitor range from 0.68uF to 1uF. Best performance is achieved with a low ESR X7R ceramic capacitor.", 19 C- "Charge Pump Flying Capacitor Terminals. Optimum values for the flying capacitor range from 0.68uF to 1uF. Best performance is achieved with a low ESR X7R ceramic capacitor.", 20 DVCC (power) "Supply Voltage for the Microcontroller Side Digital Input and Input/Output Pins (Typically 3V). If the charge pump input pin (VIN) is powered from the same source as the microcontroller, then DVCC should be connected (See Datasheet)", 21 ~{READY} (oc) "(Output) Readiness Indicator of the Smart Card Supply Voltage (VCC). When the LTC1755/ LTC1756 are placed in the Active state the soft-start feature slowly ramps the VCC voltage. A low on the R\E\A\D\Y\ pin indicates that (See Datasheet)", 22 ~{ALARM} (oc) "(Output) A low on this pin indicates that a fault has occurred and that the LTC1755 is in the Alarm state (see the State Diagram). Possible faults include VCC underrange for at least 5ms, overtemperature shutdown, CLK or RST (See Datasheet)", 23 ~{CARD} (oc) "(Output) Level-Shifted and Debounced PRES Signal from the Smart Card Acceptor Switch. When a valid card indication appears, this pin communicates the presence of the Smart Card to the microcontroller. The C\A\R\D\ pin has an (See Datasheet)", 24 5V/~{3V} (in) "(Input) Controls the output voltage (VCC) of the DC/DC converter during the Active state. A valid high sets VCC to 5V. A valid low sets VCC to 3V. The 5V/3\V\ pin is latched on the falling edge of the P\W\R\ pin. When P\W\R\ (See Datasheet)"